# Altium footprint library OXETGLJANF24MHZ.PcbLib: 1 footprints
Each footprint in its own frame and in the unit in brackets; x right, y up, seen from the top. Pads: shape width x height; smd on the part's side, far side on the other; paste and mask are expansions set on the pad; w line width, h text height; cw(c..) or ccw(c..) is an arc to the next point about the centre after c.
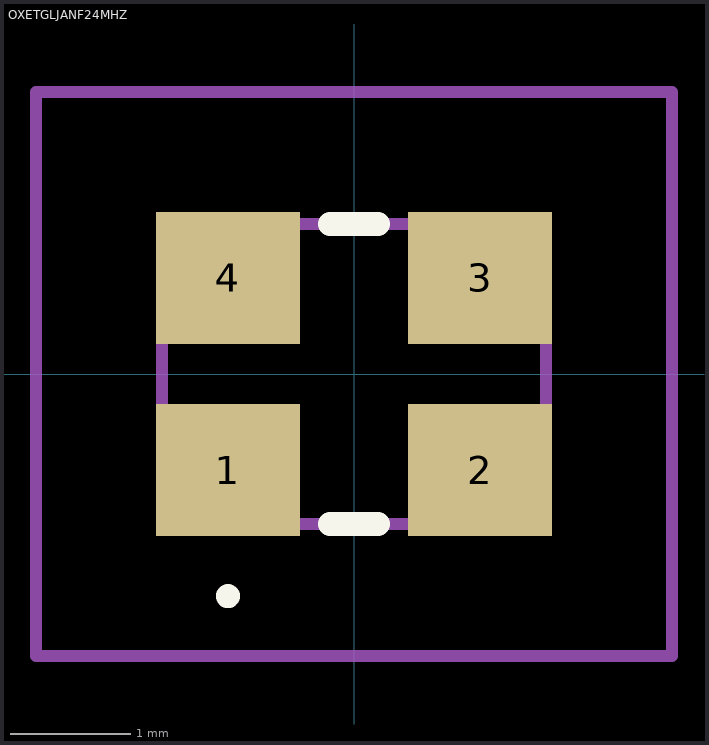
[diagram p0: the footprint, top view; thin cyan lines are the x and y axes]

## OXETGLJANF24MHZ [mm]
pads (4):
  rect 1.2x1.1 smd: 1(-1.05,-0.8) 2(1.05,-0.8) 3(1.05,0.8) 4(-1.05,0.8)
Top Overlay:
  lines w0.1: -1.05,-1.9 cw(c-1.05,-1.85) -1.05,-1.8 ; -1.05,-1.9 -1.05,-1.9 ; -1.05,-1.9 ccw(c-1.05,-1.85) -1.05,-1.8 ; -1.05,-1.8 -1.05,-1.8
  lines w0.2: -0.2,-1.25 0.2,-1.25 ; -0.2,1.25 0.2,1.25
Mechanical 15:
  lines w0.1: -1.6,-1.25 1.6,-1.25 1.6,1.25 -1.6,1.25 -1.6,-1.25
Mechanical 20:
  lines w0.1: -2.65,-2.35 2.65,-2.35 2.65,2.35 -2.65,2.35 -2.65,-2.35